# EAGLE library part USD_SHIFTER (library sparkfun)
Header 7 Standard 7-pin 0.1" header. Use with straight break away headers (SKU : PRT-00116), right angle break away headers (PRT-00553), swiss pins (PRT-00743), machine pins (PRT-00117), and female headers (PRT-00115). NOTES ON THE VARIANTS LOCK and LOCK_LONGPADS... This footprint was designed to help hold the alignment of a through-hole component (i.e. 7-pin header) while soldering it into place. You may notice that each hole has been shifted either up or down by 0.005 of an inch from it's more standard position (which is usually a perfectly straight line). This slight alteration caused the pins (the squares in the middle) to touch the edges of the holes. Because they are alternating, it causes a "brace" to hold the header in place. 0.005 has proven to be the perfect amount of "off-center" position when using our standard breakaway headers. Although looks a little odd when you look at the bare footprint, once you have a header in there, the alteration is very hard to notice. Also, if you push a header all the way into place, it is covered up entirely on the bottom side. This idea of altering the position of holes to aid alignment will be further integrated into the Sparkfun Library for other footprints. It can help hold any component with 3 or more connection pins.
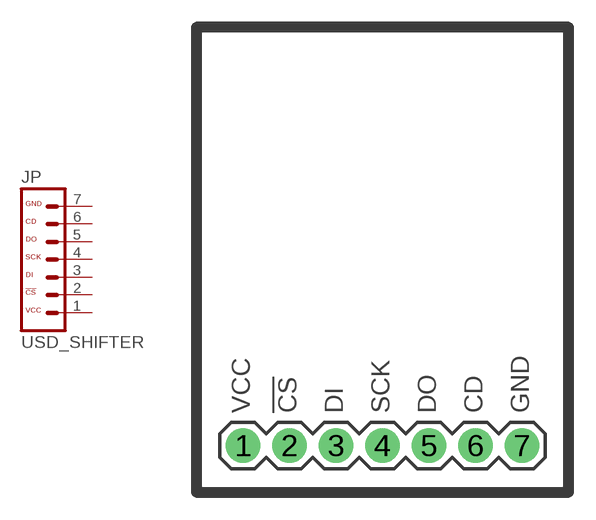
[diagram p0: symbol with the pads of USD_SHIFTER; footprint USD_SHIFTER]

Designator prefix JP

## USD_SHIFTER  [USD_SHIFTER]
1  VCC  pwr
2  !CS  in
3  DI  out
4  SCK  in
5  DO  in
6  CD  out
7  GND  pwr

## Footprint USD_SHIFTER (pad centres in mm)
drill 1.016 pad 1.88: 1 -7.62,-10.16; 2 -5.08,-10.16; 3 -2.54,-10.16; 4 0,-10.16; 5 2.54,-10.16; 6 5.08,-10.16; 7 7.62,-10.16